# Altium integrated library Film_Capacitors.IntLib: 2 symbols
Pins are listed as number, name and electrical type; pins without a type are passive.

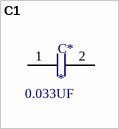
[diagram p0: symbol C1]

## C1
designator C*  Capacitance: 0.033UF
0.033µF Film Capacitor 305V 630V Polypropylene (PP) Radial; Manufacturer: EPCOS (TDK); Manufacturer PN: Manufacturer Part Number; ComponentLink1Description: Datasheet; ComponentLink1URL: https://www.tdk-electronics.tdk.com/inf/20/20/db/fc_2009/X2_B32921_928.pdf; Digi-Key PN: 495-4946-2-ND
footprint PCBComponent_1
pins: 1, 2


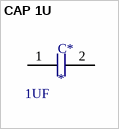
[diagram p1: symbol CAP 1U]

## CAP 1U
designator C*  Capacitance: 1UF
1µF Film Capacitor 40V 63V Polyester, Polyethylene Terephthalate (PET), Metallized - Stacked Radial; Manufacturer: EPCOS (TDK); Manufacturer Part Number: B32529C0105K189; Digi-Key Part Number: 495-2470-2-ND; ComponentLink1Description: Datasheet; ComponentLink1URL: https://www.tdk-electronics.tdk.com/inf/20/20/db/fc_2009/B32520_529.pdf
footprint PCBComponent_1
pins: 1, 2